# EAGLE library part WIZFI210/220 (library _wiznet_2013-08-28)
WIZnet WizFi210 / 220 - Ultra Low Power “Serial to WiFi” Module
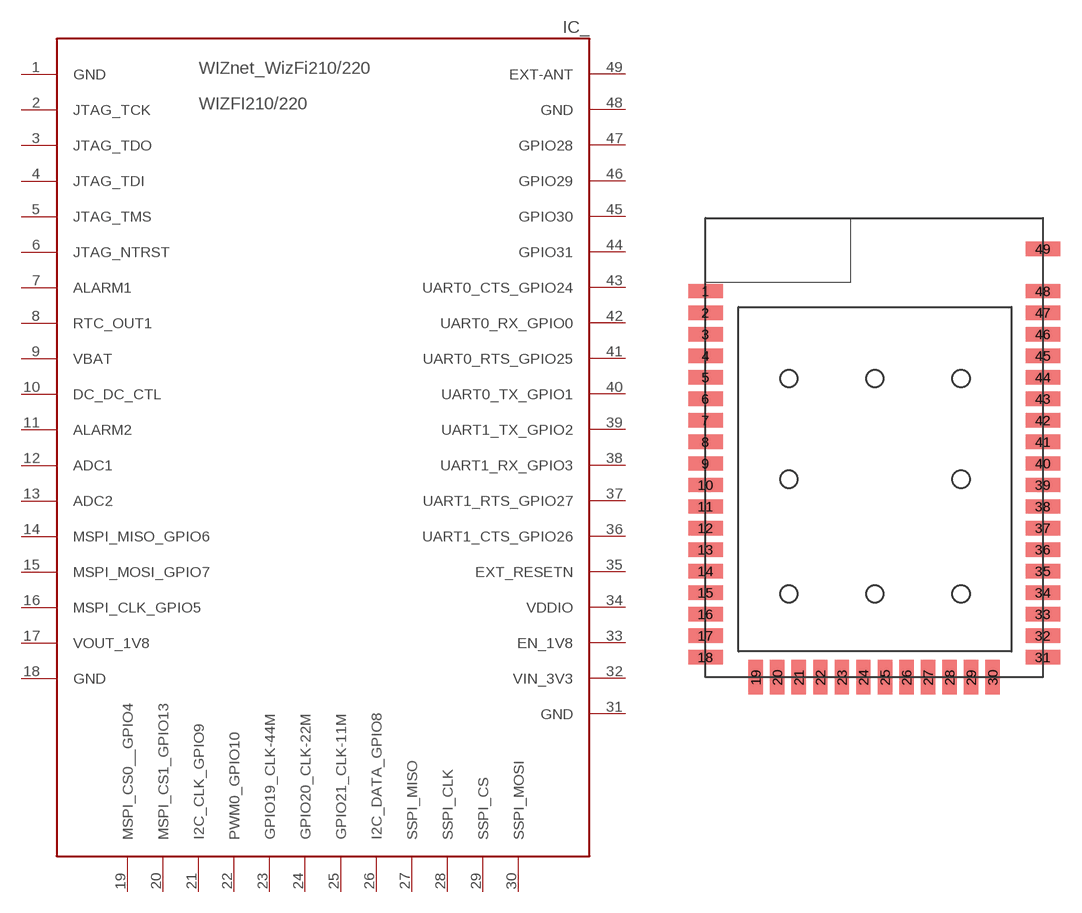
[diagram p0: symbol with the pads of WIZFI210/220; footprint WIZFI210/220]

Designator prefix IC_

## WIZFI210/220  [WIZFI210/220]
1  GND  pwr
2  JTAG_TCK  in
3  JTAG_TDO  out
4  JTAG_TDI  in
5  JTAG_TMS  in
6  JTAG_NTRST  in
7  ALARM1  in
8  RTC_OUT1  out
9  VBAT  pwr
10  DC_DC_CTL  out
11  ALARM2  in
12  ADC1  in
13  ADC2  in
14  MSPI_MISO_GPIO6  in
15  MSPI_MOSI_GPIO7  out
16  MSPI_CLK_GPIO5
17  VOUT_1V8
18  GND  pwr
19  MSPI_CS0__GPIO4  out
20  MSPI_CS1_GPIO13  out
21  I2C_CLK_GPIO9
22  PWM0_GPIO10  out
23  GPIO19_CLK-44M  in
24  GPIO20_CLK-22M  in
25  GPIO21_CLK-11M  in
26  I2C_DATA_GPIO8
27  SSPI_MISO  out
28  SSPI_CLK  in
29  SSPI_CS  in
30  SSPI_MOSI  in
31  GND  pwr
32  VIN_3V3  pwr
33  EN_1V8  in
34  VDDIO  pwr
35  EXT_RESETN
36  UART1_CTS_GPIO26  in
37  UART1_RTS_GPIO27  out
38  UART1_RX_GPIO3  in
39  UART1_TX_GPIO2  out
40  UART0_TX_GPIO1  out
41  UART0_RTS_GPIO25  out
42  UART0_RX_GPIO0  in
43  UART0_CTS_GPIO24  in
44  GPIO31
45  GPIO30
46  GPIO29
47  GPIO28
48  GND  pwr
49  EXT-ANT

## Footprint WIZFI210/220 (pad centres in mm)
smd 2.4 x 1: 1 -11.5,12.86; 2 -11.5,11.36; 3 -11.5,9.86; 4 -11.5,8.36; 5 -11.5,6.86; 6 -11.5,5.36; 7 -11.5,3.86; 8 -11.5,2.36; 9 -11.5,0.86; 10 -11.5,-0.64; 11 -11.5,-2.14; 12 -11.5,-3.64; 13 -11.5,-5.14; 14 -11.5,-6.64; 15 -11.5,-8.14; 16 -11.5,-9.64; 17 -11.5,-11.14; 18 -11.5,-12.64; 31 12,-12.64; 32 12,-11.14; 33 12,-9.64; 34 12,-8.14; 35 12,-6.64; 36 12,-5.14; 37 12,-3.64; 38 12,-2.14; 39 12,-0.64; 40 12,0.86; 41 12,2.36; 42 12,3.86; 43 12,5.36; 44 12,6.86; 45 12,8.36; 46 12,9.86; 47 12,11.36; 48 12,12.86; 49 12,15.81
smd 1 x 2.4: 19 -8,-14.04; 20 -6.5,-14.04; 21 -5,-14.04; 22 -3.5,-14.04; 23 -2,-14.04; 24 -0.5,-14.04; 25 1,-14.04; 26 2.5,-14.04; 27 4,-14.04; 28 5.5,-14.04; 29 7,-14.04; 30 8.5,-14.04